# Altium footprint library SpaceBee.PcbLib: 36 footprints (part 3 of 3)
Each footprint in its own frame and in the unit in brackets; x right, y up, seen from the top. Pads: shape width x height; smd on the part's side, far side on the other; paste and mask are expansions set on the pad; w line width, h text height; cw(c..) or ccw(c..) is an arc to the next point about the centre after c.
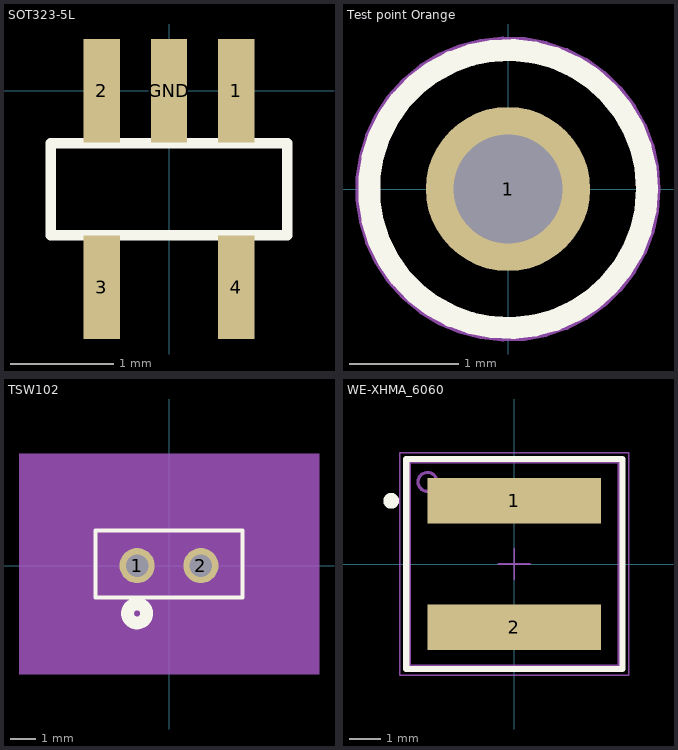
[diagram p2: the footprints below, top view; thin cyan lines are the x and y axes]

## SOT323-5L [mm]
pads (5):
  rect 0.35x1 smd: 1(0.65,0) 2(-0.65,0) 3(-0.65,-1.9) 4(0.65,-1.9) GND(0,0)
Top Overlay:
  lines w0.1: -1.143,-1.397 1.143,-1.397 1.143,-0.508 -1.143,-0.508 -1.143,-1.397
3D body "SOT323-5L_STM.step": height 1.09, standoff 0, extent -1.105,-2.21 1.105,0.178

## Test point Orange [mm]
pads (1):
  round 1.5 hole 1: 1(0,0)
Top Overlay:
  circle w0.2: c0,0 r1.27
Mechanical 13:
  circle w0.1: c0,0 r1.27
Mechanical 15:
  circle w0.05: c0,0 r1.37
  lines w0.1: -0.5,0 0.5,0 ; 0,-0.5 0,0.5
3D body "User Library-Test Point Keystone - 5003 ORANGE.STEP": height 4.57, standoff -3.05, extent -1.27,-1.27 1.27,1.27

## TSW102 [mil]
pads (2):
  round 55 hole 35 mask+0: 1(-50,0) 2(50,0)
Top Overlay:
  circle w20: c-50,-75 r15
  lines w6: -115,-50 115,-50 115,55 -115,55 -115,-50
Bottom Overlay:
  circle w20: c-50,-75 r15
Mechanical 5:
  region: -235,175 235,175 235,-170 -235,-170
Mechanical 13:
  circle w0: c-50,0 r10
  lines w1: -110,-45 110,-45 110,50 -110,50 -110,-45
Mechanical 15:
  region: 120,60 100,60 100,102 -100,102 -100,60 -120,60 -120,-55 -100,-55 -100,-102 100,-102 100,-55 120,-55
  lines w6: -120,-55 -120,60 -100,60 -100,102 100,102 100,60 120,60 120,-55 100,-55 100,-102 -100,-102 -100,-55 -120,-55
3D body "CON2_1X2_TU_TSW.step": height 500, standoff 0, extent -100,-50 100,50

## WE-XHMA_6060 [mm]
pads (2):
  rect 5.5x1.45 smd: 1(0,2) 2(0,-2)
Top Overlay:
  circle w0.25: c-3.9,2 r0.125
  lines w0.2: -3.425,-3.325 -3.425,3.325 3.425,3.325 3.425,-3.325 -3.425,-3.325
Top 3D Body:
  circle w0.1: c-2.75,2.6 r0.3
  lines w0.1: -3.325,-3.225 3.325,-3.225 3.325,3.225 -3.325,3.225 -3.325,-3.225
Top Courtyard:
  lines w0.05: -0.5,0 0.5,0 ; 0,-0.5 0,0.5 ; -3.625,-3.525 -3.625,3.525 3.625,3.525 3.625,-3.525 -3.625,-3.525
Top Assembly:
  circle w0.1: c-2.75,2.6 r0.3
  lines w0.1: -3.325,-3.225 -3.325,3.225 3.325,3.225 3.325,-3.225 -3.325,-3.225
3D body "78439346xxx.stp": height 5.8, standoff 0, extent -3.325,-3.225 3.325,3.225